# EAGLE library part NMJ6HFD4 (library con_neutrik_ag__Jack6,35)
1/4" stereo jack, switched, with full threaded nose and fishtail PCB pins Mounting nut included
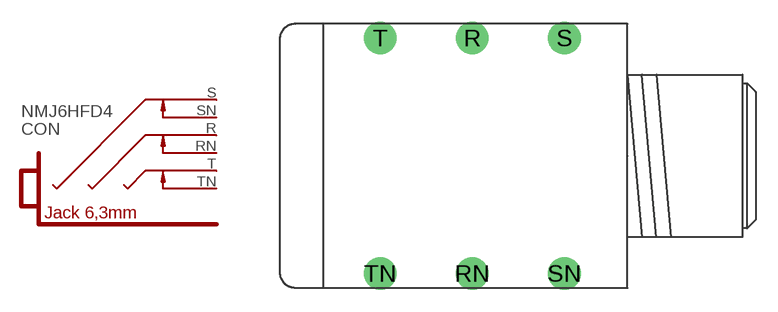
[diagram p11: symbol with the pads of NMJ6HFD4; footprint NMJ6HFD4]

Designator prefix CON

## NMJ6HFD4  [NMJ6HFD4]
R  R  pas
RN  RN  pas
S  S  pas
SN  SN  pas
T  T  pas
TN  TN  pas

## Footprint NMJ6HFD4 (pad centres in mm)
drill 1.5 round: R -10.7,8.115; RN -10.7,-8.115; S -4.35,8.115; SN -4.35,-8.115; T -17.05,8.115; TN -17.05,-8.115